# EAGLE library part CONN (library CONN)
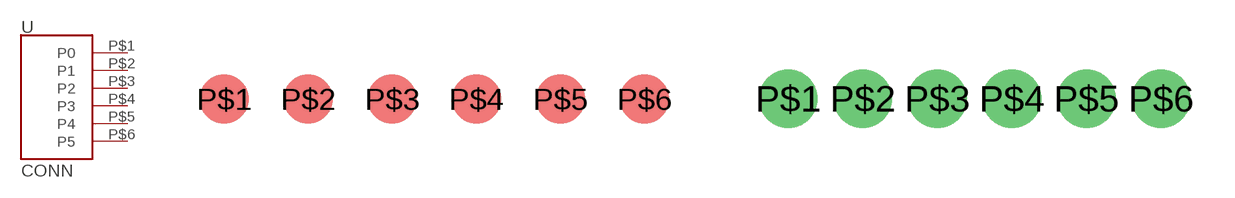
[diagram p0: symbol with the pads of PADS; footprints PADS, PINS]

Designator prefix -

## CONNPADS  [PADS]
P$1  P0
P$2  P1
P$3  P2
P$4  P3
P$5  P4
P$6  P5

## CONNPINS  [PINS]
Pads as for PADS

## Footprint PADS (pad centres in mm)
smd 1.5 x 1.5: P$1 0,0; P$2 2.54,0; P$3 5.08,0; P$4 7.62,0; P$5 10.16,0; P$6 12.7,0

## Footprint PINS (pad centres in mm)
drill 1.1 pad 2: P$1 0,0; P$2 2.54,0; P$3 5.08,0; P$4 7.62,0; P$5 10.16,0; P$6 12.7,0